# Altium schematic symbol library IC_MCP130D.SchLib: 1 symbol
Pins are listed as number, name and electrical type; pins without a type are passive.

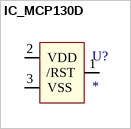
[diagram p0: symbol IC_MCP130D]

## IC_MCP130D
designator U?
pins: 1 /RST, 2 VDD, 3 VSS